# Altium footprint library SIP750W46P254L1400H1010Q3.PcbLib: 1 footprints
Each footprint in its own frame and in the unit in brackets; x right, y up, seen from the top. Pads: shape width x height; smd on the part's side, far side on the other; paste and mask are expansions set on the pad; w line width, h text height; cw(c..) or ccw(c..) is an arc to the next point about the centre after c.
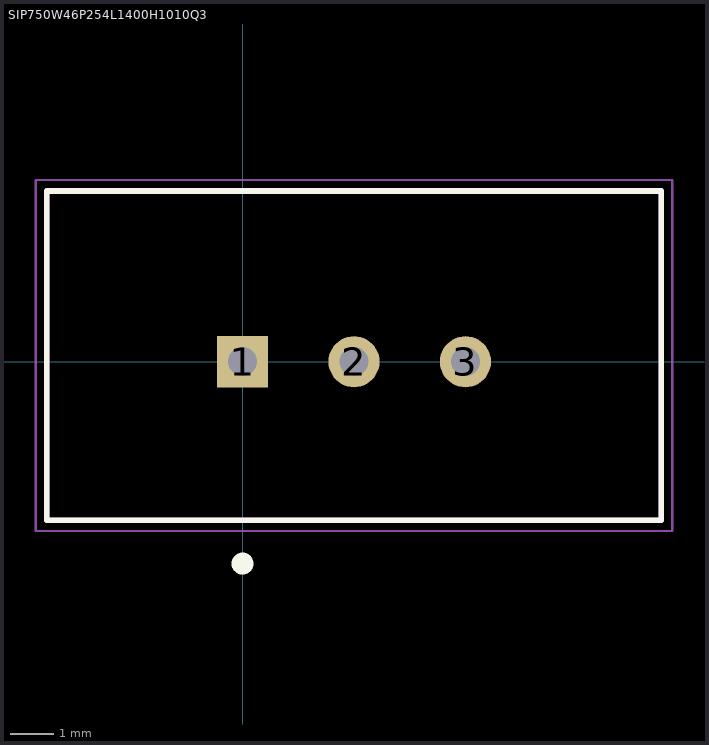
[diagram p0: the footprint, top view; thin cyan lines are the x and y axes]

## SIP750W46P254L1400H1010Q3 [mm]
pads (3):
  rect 1.168x1.168 / inner round 1.168 / far side rect 1.168x1.168 hole 0.66: 1(0,0)
  round 1.168 hole 0.66: 2(2.54,0) 3(5.08,0)
Top Overlay:
  circle w0.3: c0,-4.6 r0.1
  lines w0.127: -4.46,-3.61 9.54,-3.61 9.54,3.89 -4.46,3.89 -4.46,-3.61
Mechanical 13:
  lines w0.127: -4.46,-3.61 9.54,-3.61 9.54,3.89 -4.46,3.89 -4.46,-3.61
Mechanical 15:
  lines w0.05: -4.71,-3.86 -4.71,4.14 9.79,4.14 9.79,-3.86 -4.71,-3.86